# Altium footprint library KF304_place.PcbLib: 7 footprints
Each footprint in its own frame and in the unit in brackets; x right, y up, seen from the top. Pads: shape width x height; smd on the part's side, far side on the other; paste and mask are expansions set on the pad; w line width, h text height; cw(c..) or ccw(c..) is an arc to the next point about the centre after c.
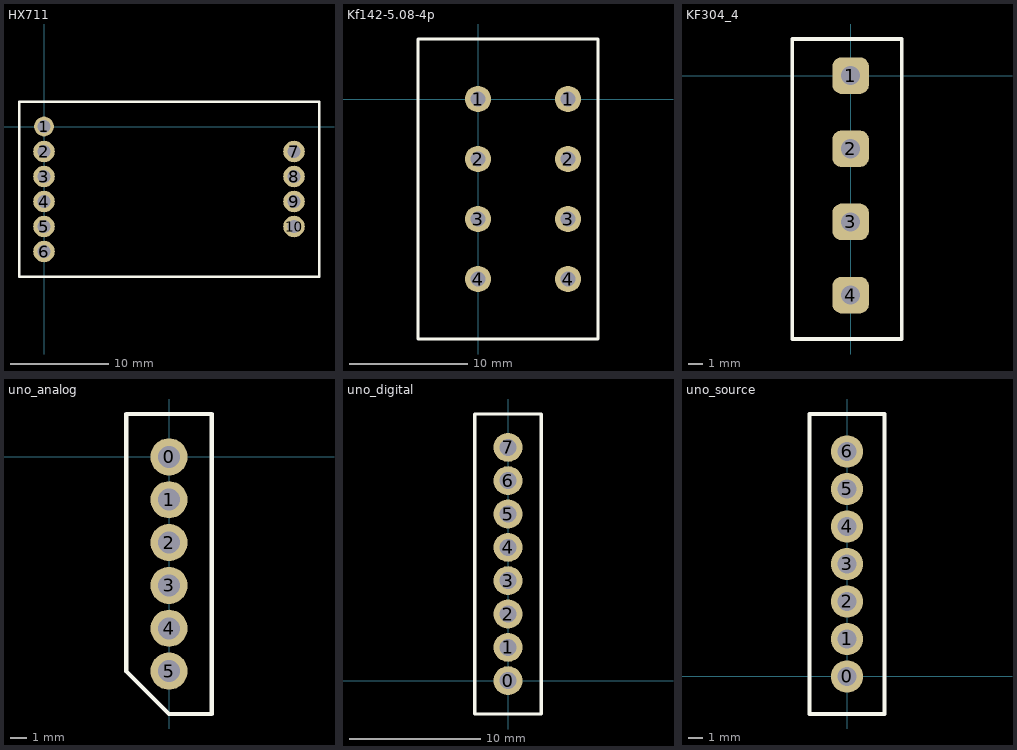
[diagram p0: the footprints below, top view; thin cyan lines are the x and y axes]

## HX711 [mm]
height 5
pads (10):
  round 2 hole 1.3 paste+0 mask+0.102: 1(0,0)
  round 2.2 hole 1.3 paste+0 mask+0.102: 2(0,-2.54) 3(0,-5.08) 4(0,-7.62) 5(0,-10.16) 6(0,-12.7) 7(25.4,-2.54) 8(25.4,-5.08) 9(25.4,-7.62) 10(25.4,-10.16)
Top Overlay:
  lines w0.254: -2.54,-15.24 27.94,-15.24 27.94,2.54 -2.54,2.54 -2.54,-15.24

## Kf142-5.08-4p [mm]
height 15
pads (8):
  round 2.2 hole 1.3 paste+0 mask+0.102: 1(0,0) 1(7.62,0) 2(0,-5.08) 2(7.62,-5.08) 3(0,-10.16) 3(7.62,-10.16) 4(0,-15.24) 4(7.62,-15.24)
Top Overlay:
  lines w0.254: -5.08,-20.32 10.16,-20.32 10.16,5.08 -5.08,5.08 -5.08,-20.32

## KF304_4 [mm]
height 14.5
pads (4):
  rrect50% 2.5x2.5 hole 1.3 paste+0 mask+0.102: 1(0,0) 2(0,-5) 3(0,-10) 4(0,-15)
Top Overlay:
  lines w0.254: -4,-18 3.5,-18 3.5,2.5 -4,2.5 -4,-18

## PCBComponent_1 [mm]

## uno_analog [mm]
pads (6):
  round 2.2 hole 1.3 paste+0 mask+0.102: 0(0,0) 1(0,-2.54) 2(0,-5.08) 3(0,-7.62) 4(0,-10.16) 5(0,-12.7)
Top Overlay:
  lines w0.254: -2.54,-12.7 -2.54,2.54 2.54,2.54 2.54,-15.24 0,-15.24 -2.54,-12.7

## uno_digital [mm]
pads (8):
  round 2.2 hole 1.3 paste+0 mask+0.102: 0(0,0) 1(0,2.54) 2(0,5.08) 3(0,7.62) 4(0,10.16) 5(0,12.7) 6(0,15.24) 7(0,17.78)
Top Overlay:
  lines w0.254: -2.54,-2.54 2.54,-2.54 2.54,20.32 -2.54,20.32 -2.54,-2.54

## uno_source [mm]
pads (7):
  round 2.2 hole 1.3 paste+0 mask+0.102: 0(0,0) 1(0,2.54) 2(0,5.08) 3(0,7.62) 4(0,10.16) 5(0,12.7) 6(0,15.24)
Top Overlay:
  lines w0.254: -2.54,-2.54 2.54,-2.54 2.54,17.78 -2.54,17.78 -2.54,-2.54